# Altium footprint library Discrete.PcbLib: 53 footprints (part 4 of 4)
Each footprint in its own frame and in the unit in brackets; x right, y up, seen from the top. Pads: shape width x height; smd on the part's side, far side on the other; paste and mask are expansions set on the pad; w line width, h text height; cw(c..) or ccw(c..) is an arc to the next point about the centre after c.
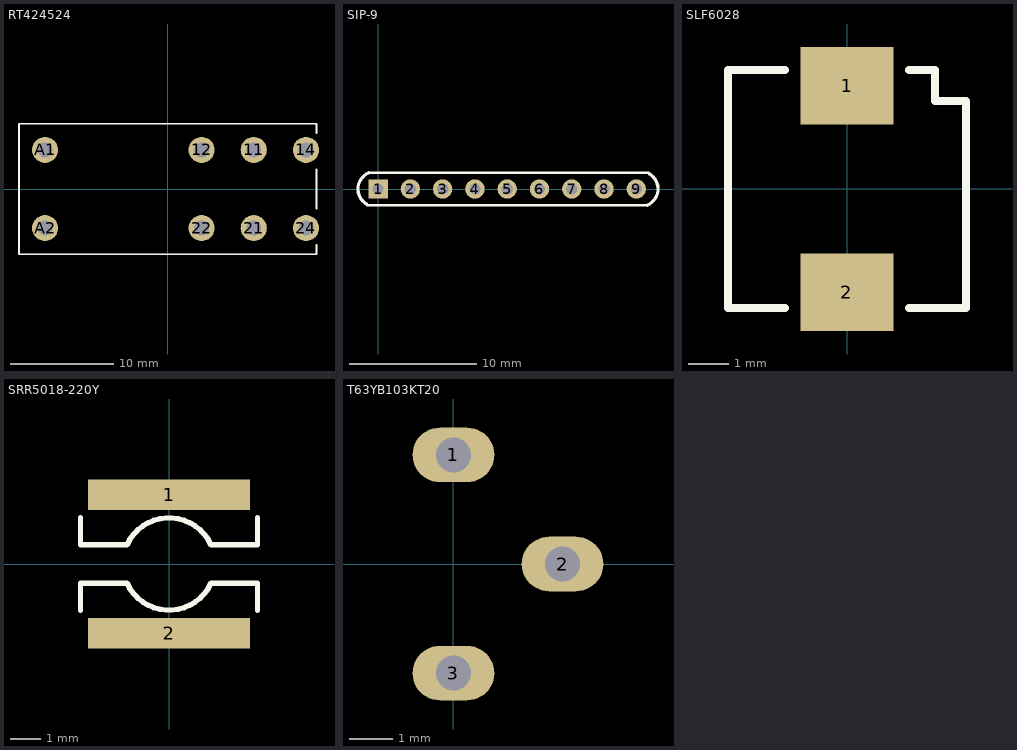
[diagram p3: the footprints below, top view; thin cyan lines are the x and y axes]

## RT424524 [mil] "DPDT Standard relay"
height 618
pads (8):
  round 100 hole 57: 11(330,150) 12(130,150) 14(530,150) 21(330,-150) 22(130,-150) 24(530,-150) A1(-470,150) A2(-470,-150)
Top Overlay:
  lines w7: 570,-215 570,-250 -570,-250 -570,250 570,250 570,215 ; 570,-75 570,75

## SIP-9 [mil]
pads (9):
  rect 60x60 hole 35: 1(0,0)
  round 60 hole 35: 2(100,0) 3(200,0) 4(300,0) 5(400,0) 6(500,0) 7(600,0) 8(700,0) 9(800,0)
Top Overlay:
  lines w8: -33.95,-50 835,-50 ; -30,50 838.95,50
  lines w10: -33.95,-48.15 cw(c-7.24,-0.07) -30,50 ; 835,-50 ccw(c812.24,0.07) 838.95,48.15
3D body: height 204.29, standoff -130.35, extent -40,-25 845.83,24.21

## SLF6028 [mil]
pads (2):
  rect 90x75 smd: 1(0,100) 2(0,-100)
Top Overlay:
  lines w8: -60,-115 -115,-115 -115,115 -60,115 ; 60,-115 115,-115 115,85 85,85 85,115 60,115
3D body: height 54, standoff 2, extent -109.13,-109.78 110,109.79

## SRR5018-220Y [mil]
height 71
pads (2):
  rect 210x40 smd: 1(0,90) 2(0,-90)
Top Overlay:
  lines w7: -115,-60 -115,-25 -54.62,-25 ; -115,60 -115,25 -54.62,25 ; -54.62,-24.83 ccw(c0,0) 54.62,-24.83 ; -54.62,24.83 cw(c0,0) 54.62,24.83 ; 54.62,-25 115,-25 115,-60 ; 54.62,25 115,25 115,60

## T63YB103KT20 [mil]
pads (3):
  oval 75x50 hole 32: 1(0,100) 2(100,0) 3(0,-100)
3D body: height 322.83, standoff -102.36, extent -30.04,-133.86 155,133.86